# Altium schematic symbol library LT1011CN8#PBF.SchLib: 1 symbol
Pins are listed as number, name and electrical type; pins without a type are passive.

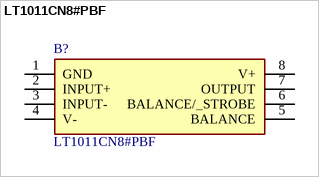
[diagram p0: symbol LT1011CN8#PBF]

## LT1011CN8#PBF
designator B?
Linear Technology LT1011CN8#PBF Comparator, Open Collector O/P, 0.15us 30 V 8-Pin PDIP; Manufacturer_Name: Analog Devices; Geometry.Height: 3.937mm; Mouser Part Number: 584-LT1011CN8#PBF; Mouser Price/Stock: https://www.mouser.co.uk/ProductDetail/Analog-Devices/LT1011CN8PBF?qs=ytflclh7QUWFs7XG0lj57g%3D%3D; Manufacturer_Part_Number: LT1011CN8#PBF; Datasheet Link: http://www.linear.com/docs/2476
footprint DIP794W53P254L1016H394Q8N
pins: 1 GND, 2 INPUT+, 3 INPUT-, 4 V-, 5 BALANCE, 6 BALANCE/_STROBE, 7 OUTPUT, 8 V+